# Altium footprint library LCC-LGA-109_L17.7-W15.8-P1.10_MC661.PcbLib: 1 footprints
Each footprint in its own frame and in the unit in brackets; x right, y up, seen from the top. Pads: shape width x height; smd on the part's side, far side on the other; paste and mask are expansions set on the pad; w line width, h text height; cw(c..) or ccw(c..) is an arc to the next point about the centre after c.
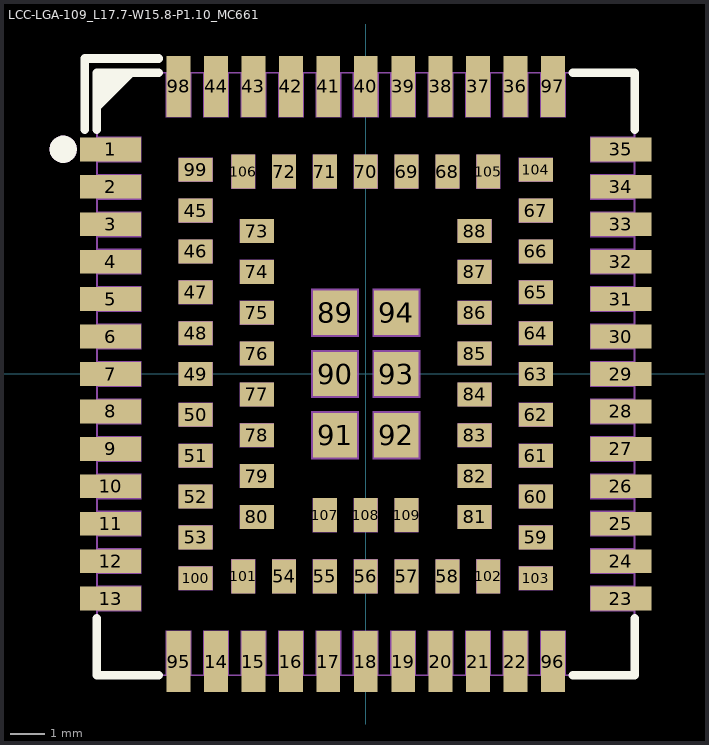
[diagram p0: the footprint, top view; thin cyan lines are the x and y axes]

## LCC-LGA-109_L17.7-W15.8-P1.10_MC661 [mm]
pads (109):
  rect 1.8x0.7 smd: 1(-7.5,6.6) 2(-7.5,5.5) 3(-7.5,4.4) 4(-7.5,3.3) 5(-7.5,2.2) 6(-7.5,1.1) 7(-7.5,0) 8(-7.5,-1.1) 9(-7.5,-2.2) 10(-7.5,-3.3) 11(-7.5,-4.4) 12(-7.5,-5.5) 13(-7.5,-6.6) 23(7.5,-6.6) 24(7.5,-5.5) 25(7.5,-4.4) 26(7.5,-3.3) 27(7.5,-2.2) 28(7.5,-1.1) 29(7.5,0) 30(7.5,1.1) 31(7.5,2.2) 32(7.5,3.3) 33(7.5,4.4) 34(7.5,5.5) 35(7.5,6.6)
  rect 0.7x1.8 smd: 14(-4.4,-8.45) 15(-3.3,-8.45) 16(-2.2,-8.45) 17(-1.1,-8.45) 18(0,-8.45) 19(1.1,-8.45) 20(2.2,-8.45) 21(3.3,-8.45) 22(4.4,-8.45) 36(4.4,8.45) 37(3.3,8.45) 38(2.2,8.45) 39(1.1,8.45) 40(0,8.45) 41(-1.1,8.45) 42(-2.2,8.45) 43(-3.3,8.45) 44(-4.4,8.45) 95(-5.5,-8.45) 96(5.5,-8.45) 97(5.5,8.45) 98(-5.5,8.45)
  rect 1x0.7 smd: 45(-5,4.8) 46(-5,3.6) 47(-5,2.4) 48(-5,1.2) 49(-5,0) 50(-5,-1.2) 51(-5,-2.4) 52(-5,-3.6) 53(-5,-4.8) 59(5,-4.8) 60(5,-3.6) 61(5,-2.4) 62(5,-1.2) 63(5,0) 64(5,1.2) 65(5,2.4) 66(5,3.6) 67(5,4.8) 73(-3.2,4.2) 74(-3.2,3) 75(-3.2,1.8) 76(-3.2,0.6) 77(-3.2,-0.6) 78(-3.2,-1.8) 79(-3.2,-3) 80(-3.2,-4.2) 81(3.2,-4.2) 82(3.2,-3) 83(3.2,-1.8) 84(3.2,-0.6) 85(3.2,0.6) 86(3.2,1.8) 87(3.2,3) 88(3.2,4.2) 99(-5,6) 100(-5,-6) 103(5,-6) 104(5,6)
  rect 0.7x1 smd: 54(-2.4,-5.95) 55(-1.2,-5.95) 56(0,-5.95) 57(1.2,-5.95) 58(2.4,-5.95) 68(2.4,5.95) 69(1.2,5.95) 70(0,5.95) 71(-1.2,5.95) 72(-2.4,5.95) 101(-3.6,-5.95) 102(3.6,-5.95) 105(3.6,5.95) 106(-3.6,5.95) 107(-1.2,-4.15) 108(0,-4.15) 109(1.2,-4.15)
  rect 1.3x1.3 smd: 89(-0.9,1.8) 90(-0.9,0) 91(-0.9,-1.8) 92(0.9,-1.8) 93(0.9,0) 94(0.9,1.8)
Top Overlay:
  circle w0.4: c-8.89,6.604 r0.2
  region: -6.9,8.85 -7.9,8.85 -7.9,7.85
  lines w0.254: -8.255,7.181 -8.255,7.239 -8.255,9.271 -6.223,9.271 -6.081,9.271 ; -7.9,-7.181 -7.9,-8.85 -6.081,-8.85 ; -7.9,7.181 -7.9,7.85 ; -6.081,8.85 -6.9,8.85 ; 6.081,-8.85 7.9,-8.85 7.9,-7.181 ; 6.081,8.85 7.9,8.85 7.9,7.181 ; -7.9,7.85 -6.9,8.85 ; -7.9,7.85 -7.9,8.85 -6.9,8.85
Mechanical 6:
  circle w0.4: c-8.89,6.604 r0.2
  region: -6.9,8.85 -7.9,8.85 -7.9,7.85
Mechanical 15:
  drawing of 116 lines, arcs and shapes, not listed